# EAGLE library part NX-PCA9698 (library FaBo-Mems)
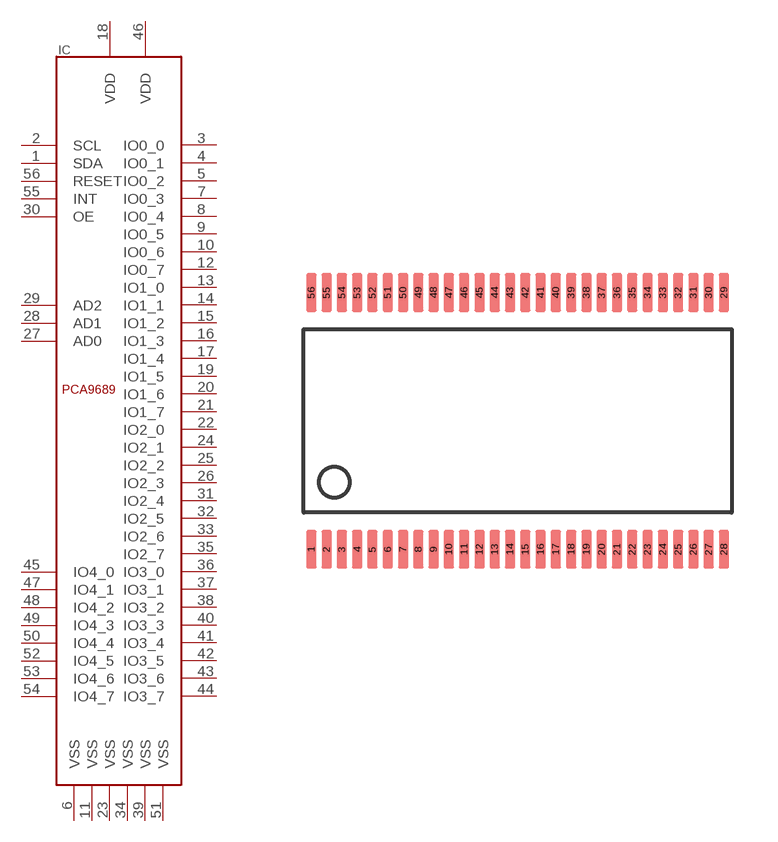
[diagram p39: symbol with the pads of NXP-PCA9698; footprint NXP-PCA9698]

Designator prefix IC

## NX-PCA9698  [NXP-PCA9698]
1  SDA
2  SCL
3  IO0_0
4  IO0_1
5  IO0_2
6  VSS
7  IO0_3
8  IO0_4
9  IO0_5
10  IO0_6
11  VSS
12  IO0_7
13  IO1_0
14  IO1_1
15  IO1_2
16  IO1_3
17  IO1_4
18  VDD
19  IO1_5
20  IO1_6
21  IO1_7
22  IO2_0
23  VSS
24  IO2_1
25  IO2_2
26  IO2_3
27  AD0
28  AD1
29  AD2
30  OE
31  IO2_4
32  IO2_5
33  IO2_6
34  VSS
35  IO2_7
36  IO3_0
37  IO3_1
38  IO3_2
39  VSS
40  IO3_3
41  IO3_4
42  IO3_5
43  IO3_6
44  IO3_7
45  IO4_0
46  VDD
47  IO4_1
48  IO4_2
49  IO4_3
50  IO4_4
51  VSS
52  IO4_5
53  IO4_6
54  IO4_7
55  INT
56  RESET

## Footprint NXP-PCA9698 (pad centres in mm)
smd 0.35 x 1.27: 1 -6.75,-4.2; 2 -6.25,-4.2; 3 -5.75,-4.2; 4 -5.25,-4.2; 5 -4.75,-4.2; 6 -4.25,-4.2; 7 -3.75,-4.2; 8 -3.25,-4.2; 9 -2.75,-4.2; 10 -2.25,-4.2; 11 -1.75,-4.2; 12 -1.25,-4.2; 13 -0.75,-4.2; 14 -0.25,-4.2; 15 0.25,-4.2; 16 0.75,-4.2; 17 1.25,-4.2; 18 1.75,-4.2; 19 2.25,-4.2; 20 2.75,-4.2; 21 3.25,-4.2; 22 3.75,-4.2; 23 4.25,-4.2; 24 4.75,-4.2; 25 5.25,-4.2; 26 5.75,-4.2; 27 6.25,-4.2; 28 6.75,-4.2; 29 6.75,4.2; 30 6.25,4.2; 31 5.75,4.2; 32 5.25,4.2; 33 4.75,4.2; 34 4.25,4.2; 35 3.75,4.2; 36 3.25,4.2; 37 2.75,4.2; 38 2.25,4.2; 39 1.75,4.2; 40 1.25,4.2; 41 0.75,4.2; 42 0.25,4.2; 43 -0.25,4.2; 44 -0.75,4.2; 45 -1.25,4.2; 46 -1.75,4.2; 47 -2.25,4.2; 48 -2.75,4.2; 49 -3.25,4.2; 50 -3.75,4.2; 51 -4.25,4.2; 52 -4.75,4.2; 53 -5.25,4.2; 54 -5.75,4.2; 55 -6.25,4.2; 56 -6.75,4.2